# Altium schematic symbol library ST Microcontroller 32-Bit ARM.SchLib: 73 symbols (part 5 of 5)
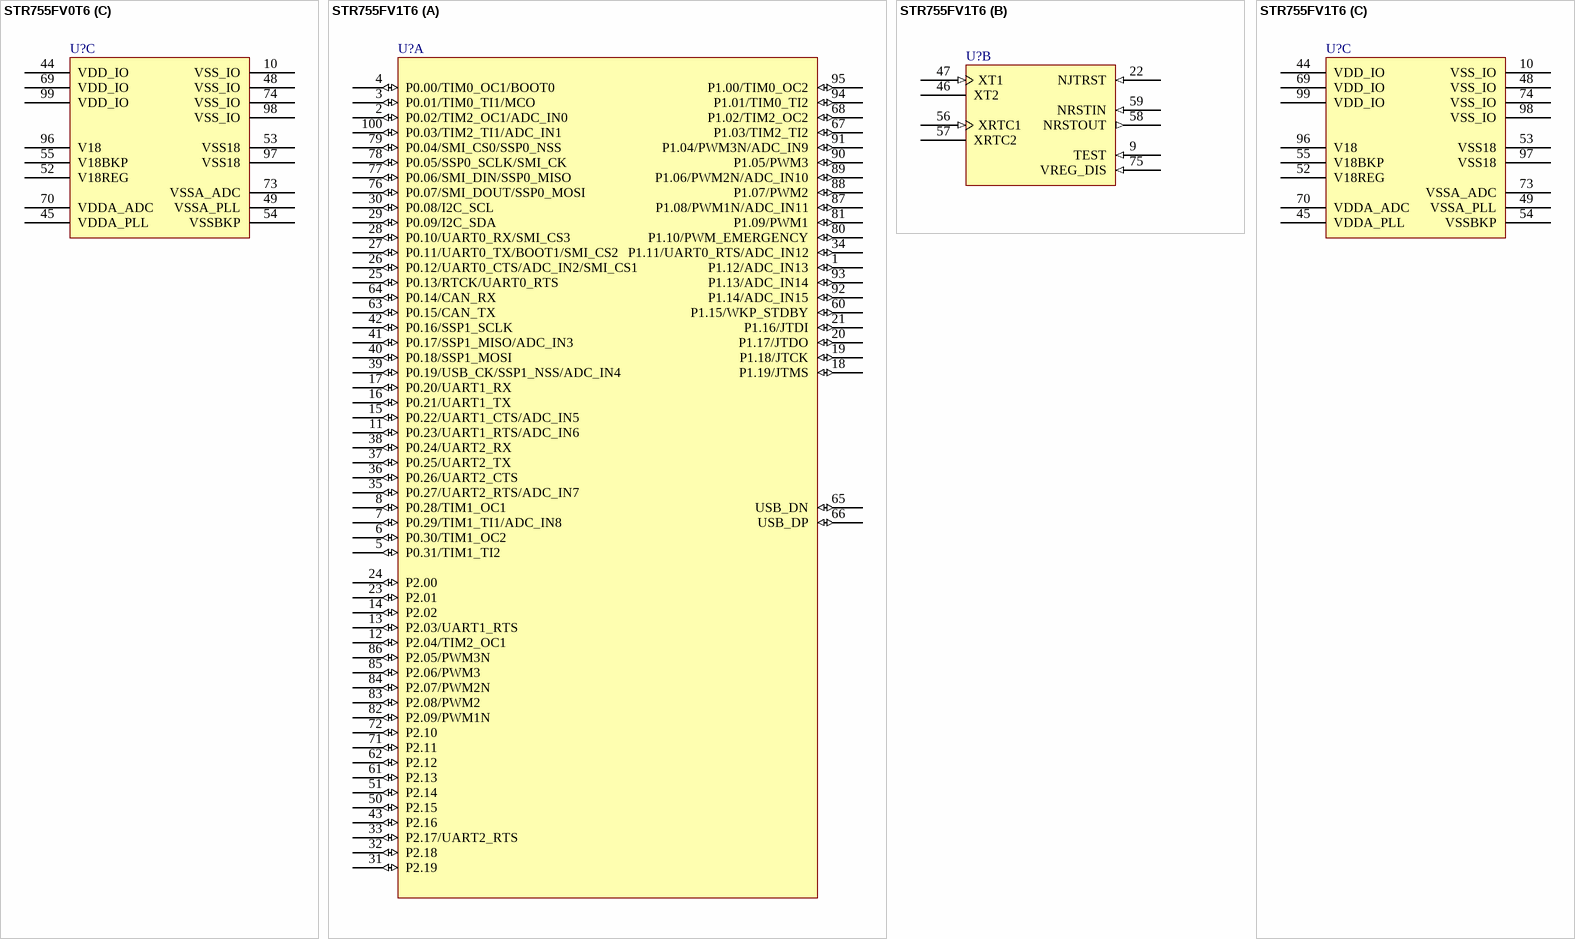
[diagram p35: symbols STR755FV0T6 to STR755FV1T6]

## STR755FV0T6
designator U?
ARM7TDMI-S 32-Bit RISC CPU, 64KB Flash Memory, 100-pin LQFP; Published: 12-Dec-2006; DatasheetVersion: rev1, Sep-2006; PackageVersion: Dec-2002; PackageReference: TQFP100; Publisher: Altium Limited; PackageDescription: 100-Pin Thin Quad Flat Pack 0.5 mm Pitch; ComponentLink1Description: Manufacturer Link; ComponentLink1URL: http://www.st.com/; ComponentLink2Description: Datasheet; ComponentLink2URL: http://www.st.com/stonline/products/literature/ds/11260.pdf
footprint TQFP100_N (Thin QFP, 100-Leads, Body 14x14mm, Pitch 0.5mm, IPC Medium Density)
footprint TQFP100_L (Thin QFP, 100-Leads, Body 14x14mm, Pitch 0.5mm, IPC High Density)
footprint TQFP100_M (Thin QFP, 100-Leads, Body 14x14mm, Pitch 0.5mm, IPC Low Density)
part A pins: 1 P1.12/ADC_IN13 (io), 2 P0.02/TIM2_OC1/ADC_IN0 (io), 3 P0.01/TIM0_TI1/MCO (io), 4 P0.00/TIM0_OC1/BOOT0 (io), 5 P0.31/TIM1_TI2 (io), 6 P0.30/TIM1_OC2 (io), 7 P0.29/TIM1_TI1/ADC_IN8 (io), 8 P0.28/TIM1_OC1 (io), 11 P0.23/UART1_RTS/ADC_IN6 (io), 12 P2.04/TIM2_OC1 (io), 13 P2.03/UART1_RTS (io), 14 P2.02 (io), 15 P0.22/UART1_CTS/ADC_IN5 (io), 16 P0.21/UART1_TX (io), 17 P0.20/UART1_RX (io), 18 P1.19/JTMS (io), 19 P1.18/JTCK (io), 20 P1.17/JTDO (io), 21 P1.16/JTDI (io), 23 P2.01 (io), 24 P2.00 (io), 25 P0.13/RTCK/UART0_RTS (io), 26 P0.12/UART0_CTS/ADC_IN2/SMI_CS1 (io), 27 P0.11/UART0_TX/BOOT1/SMI_CS2 (io), 28 P0.10/UART0_RX/SMI_CS3 (io), 29 P0.09/I2C_SDA (io), 30 P0.08/I2C_SCL (io), 31 P2.19 (io), 32 P2.18 (io), 33 P2.17/UART2_RTS (io), 34 P1.11/UART0_RTS/ADC_IN12 (io), 35 P0.27/UART2_RTS/ADC_IN7 (io), 36 P0.26/UART2_CTS (io), 37 P0.25/UART2_TX (io), 38 P0.24/UART2_RX (io), 39 P0.19/USB_CK/SSP1_NSS/ADC_IN4 (io), 40 P0.18/SSP1_MOSI (io), 41 P0.17/SSP1_MISO/ADC_IN3 (io), 42 P0.16/SSP1_SCLK (io), 43 P2.16 (io), 50 P2.15 (io), 51 P2.14 (io), 60 P1.15/WKP_STDBY (io), 61 P2.13 (io), 62 P2.12 (io), 63 P0.15/CAN_TX (io), 64 P0.14/CAN_RX (io), 65 USB_DN (io), 66 USB_DP (io), 67 P1.03/TIM2_TI2 (io), 68 P1.02/TIM2_OC2 (io), 71 P2.11 (io), 72 P2.10 (io), 76 P0.07/SMI_DOUT/SSP0_MOSI (io), 77 P0.06/SMI_DIN/SSP0_MISO (io), 78 P0.05/SSP0_SCLK/SMI_CK (io), 79 P0.04/SMI_CS0/SSP0_NSS (io), 80 P1.10/PWM_EMERGENCY (io), 81 P1.09/PWM1 (io), 82 P2.09/PWM1N (io), 83 P2.08/PWM2 (io), 84 P2.07/PWM2N (io), 85 P2.06/PWM3 (io), 86 P2.05/PWM3N (io), 87 P1.08/PWM1N/ADC_IN11 (io), 88 P1.07/PWM2 (io), 89 P1.06/PWM2N/ADC_IN10 (io), 90 P1.05/PWM3 (io), 91 P1.04/PWM3N/ADC_IN9 (io), 92 P1.14/ADC_IN15 (io), 93 P1.13/ADC_IN14 (io), 94 P1.01/TIM0_TI2 (io), 95 P1.00/TIM0_OC2 (io), 100 P0.03/TIM2_TI1/ADC_IN1 (io)
part B pins: 9 TEST (in), 22 NJTRST (in), 46 XT2, 47 XT1 (in), 56 XRTC1 (in), 57 XRTC2, 58 NRSTOUT (out), 59 NRSTIN (in), 75 VREG_DIS (in)
part C pins: 10 VSS_IO (power), 44 VDD_IO (power), 45 VDDA_PLL (power), 48 VSS_IO (power), 49 VSSA_PLL (power), 52 V18REG (power), 53 VSS18 (power), 54 VSSBKP (power), 55 V18BKP (power), 69 VDD_IO (power), 70 VDDA_ADC (power), 73 VSSA_ADC (power), 74 VSS_IO (power), 96 V18 (power), 97 VSS18 (power), 98 VSS_IO (power), 99 VDD_IO (power)

## STR755FV1T6
designator U?
ARM7TDMI-S 32-Bit RISC CPU, 128KB Flash Memory, 100-pin LQFP; Published: 12-Dec-2006; DatasheetVersion: rev1, Sep-2006; PackageVersion: Dec-2002; PackageReference: TQFP100; Publisher: Altium Limited; PackageDescription: 100-Pin Thin Quad Flat Pack 0.5 mm Pitch; ComponentLink1Description: Manufacturer Link; ComponentLink1URL: http://www.st.com/; ComponentLink2Description: Datasheet; ComponentLink2URL: http://www.st.com/stonline/products/literature/ds/11260.pdf
footprint TQFP100_N (Thin QFP, 100-Leads, Body 14x14mm, Pitch 0.5mm, IPC Medium Density)
footprint TQFP100_L (Thin QFP, 100-Leads, Body 14x14mm, Pitch 0.5mm, IPC High Density)
footprint TQFP100_M (Thin QFP, 100-Leads, Body 14x14mm, Pitch 0.5mm, IPC Low Density)
part A pins: 1 P1.12/ADC_IN13 (io), 2 P0.02/TIM2_OC1/ADC_IN0 (io), 3 P0.01/TIM0_TI1/MCO (io), 4 P0.00/TIM0_OC1/BOOT0 (io), 5 P0.31/TIM1_TI2 (io), 6 P0.30/TIM1_OC2 (io), 7 P0.29/TIM1_TI1/ADC_IN8 (io), 8 P0.28/TIM1_OC1 (io), 11 P0.23/UART1_RTS/ADC_IN6 (io), 12 P2.04/TIM2_OC1 (io), 13 P2.03/UART1_RTS (io), 14 P2.02 (io), 15 P0.22/UART1_CTS/ADC_IN5 (io), 16 P0.21/UART1_TX (io), 17 P0.20/UART1_RX (io), 18 P1.19/JTMS (io), 19 P1.18/JTCK (io), 20 P1.17/JTDO (io), 21 P1.16/JTDI (io), 23 P2.01 (io), 24 P2.00 (io), 25 P0.13/RTCK/UART0_RTS (io), 26 P0.12/UART0_CTS/ADC_IN2/SMI_CS1 (io), 27 P0.11/UART0_TX/BOOT1/SMI_CS2 (io), 28 P0.10/UART0_RX/SMI_CS3 (io), 29 P0.09/I2C_SDA (io), 30 P0.08/I2C_SCL (io), 31 P2.19 (io), 32 P2.18 (io), 33 P2.17/UART2_RTS (io), 34 P1.11/UART0_RTS/ADC_IN12 (io), 35 P0.27/UART2_RTS/ADC_IN7 (io), 36 P0.26/UART2_CTS (io), 37 P0.25/UART2_TX (io), 38 P0.24/UART2_RX (io), 39 P0.19/USB_CK/SSP1_NSS/ADC_IN4 (io), 40 P0.18/SSP1_MOSI (io), 41 P0.17/SSP1_MISO/ADC_IN3 (io), 42 P0.16/SSP1_SCLK (io), 43 P2.16 (io), 50 P2.15 (io), 51 P2.14 (io), 60 P1.15/WKP_STDBY (io), 61 P2.13 (io), 62 P2.12 (io), 63 P0.15/CAN_TX (io), 64 P0.14/CAN_RX (io), 65 USB_DN (io), 66 USB_DP (io), 67 P1.03/TIM2_TI2 (io), 68 P1.02/TIM2_OC2 (io), 71 P2.11 (io), 72 P2.10 (io), 76 P0.07/SMI_DOUT/SSP0_MOSI (io), 77 P0.06/SMI_DIN/SSP0_MISO (io), 78 P0.05/SSP0_SCLK/SMI_CK (io), 79 P0.04/SMI_CS0/SSP0_NSS (io), 80 P1.10/PWM_EMERGENCY (io), 81 P1.09/PWM1 (io), 82 P2.09/PWM1N (io), 83 P2.08/PWM2 (io), 84 P2.07/PWM2N (io), 85 P2.06/PWM3 (io), 86 P2.05/PWM3N (io), 87 P1.08/PWM1N/ADC_IN11 (io), 88 P1.07/PWM2 (io), 89 P1.06/PWM2N/ADC_IN10 (io), 90 P1.05/PWM3 (io), 91 P1.04/PWM3N/ADC_IN9 (io), 92 P1.14/ADC_IN15 (io), 93 P1.13/ADC_IN14 (io), 94 P1.01/TIM0_TI2 (io), 95 P1.00/TIM0_OC2 (io), 100 P0.03/TIM2_TI1/ADC_IN1 (io)
part B pins: 9 TEST (in), 22 NJTRST (in), 46 XT2, 47 XT1 (in), 56 XRTC1 (in), 57 XRTC2, 58 NRSTOUT (out), 59 NRSTIN (in), 75 VREG_DIS (in)
part C pins: 10 VSS_IO (power), 44 VDD_IO (power), 45 VDDA_PLL (power), 48 VSS_IO (power), 49 VSSA_PLL (power), 52 V18REG (power), 53 VSS18 (power), 54 VSSBKP (power), 55 V18BKP (power), 69 VDD_IO (power), 70 VDDA_ADC (power), 73 VSSA_ADC (power), 74 VSS_IO (power), 96 V18 (power), 97 VSS18 (power), 98 VSS_IO (power), 99 VDD_IO (power)

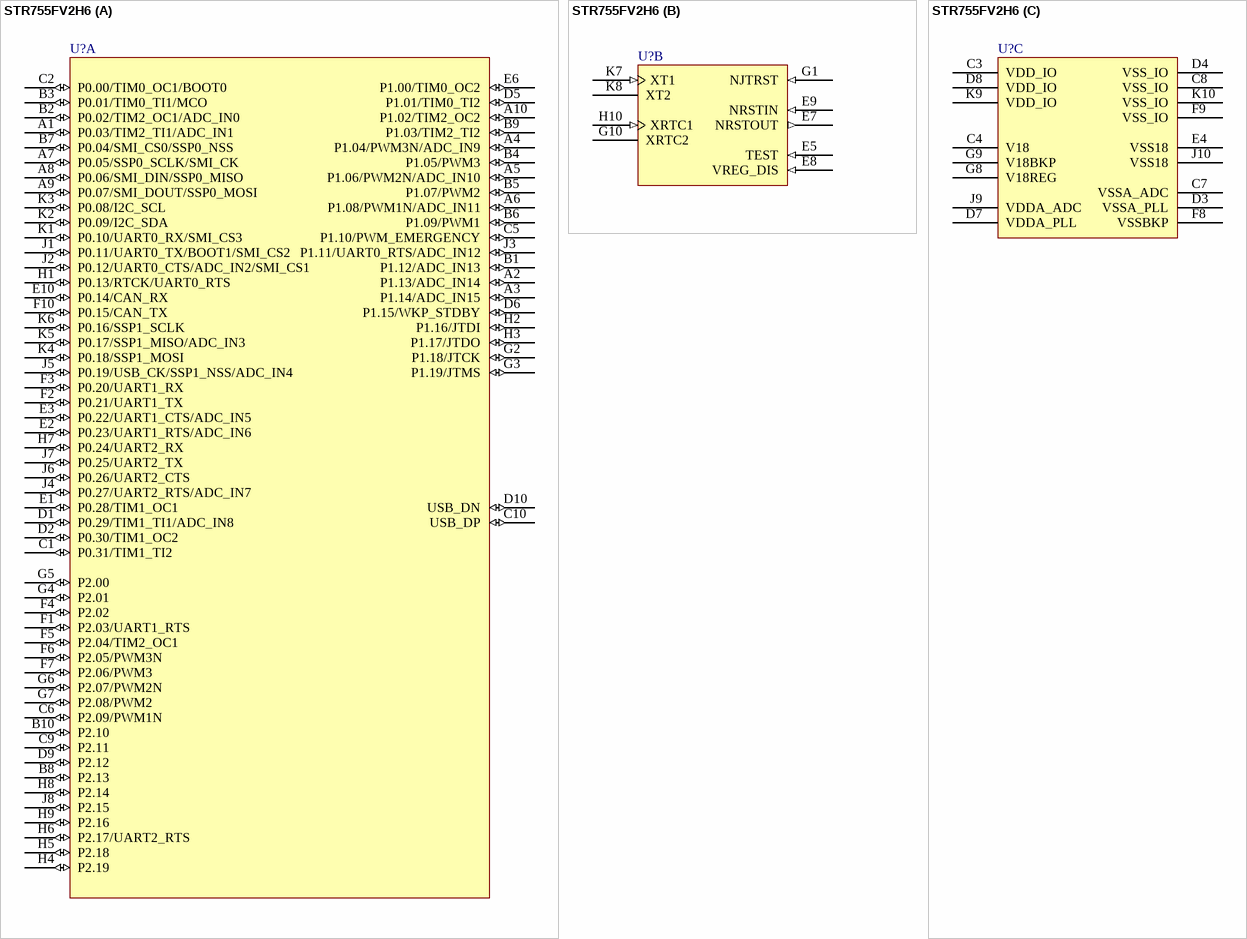
[diagram p30: symbol STR755FV2H6]

## STR755FV2H6
designator U?
ARM7TDMI-S 32-Bit RISC CPU, 256KB Flash Memory, 100-ball LFBGA; Note: For other memory sizes, contact sales office.; Published: 12-Dec-2006; DatasheetVersion: rev1, Sep-2006; PackageVersion: Sep-2006; PackageReference: LFBGA100; Publisher: Altium Limited; PackageDescription: 100-Ball Low Profile Fine Pitch Ball Grid Array; ComponentLink1Description: Manufacturer Link; ComponentLink1URL: http://www.st.com/; ComponentLink2Description: Datasheet; ComponentLink2URL: http://www.st.com/stonline/products/literature/ds/11260.pdf
footprint LFBGA100 (BGA, 100-Leads, Body 10x10mm, Pitch 0.8mm)
part A pins: A1 P0.03/TIM2_TI1/ADC_IN1 (io), A2 P1.13/ADC_IN14 (io), A3 P1.14/ADC_IN15 (io), A4 P1.04/PWM3N/ADC_IN9 (io), A5 P1.06/PWM2N/ADC_IN10 (io), A6 P1.08/PWM1N/ADC_IN11 (io), A7 P0.05/SSP0_SCLK/SMI_CK (io), A8 P0.06/SMI_DIN/SSP0_MISO (io), A9 P0.07/SMI_DOUT/SSP0_MOSI (io), A10 P1.02/TIM2_OC2 (io), B1 P1.12/ADC_IN13 (io), B2 P0.02/TIM2_OC1/ADC_IN0 (io), B3 P0.01/TIM0_TI1/MCO (io), B4 P1.05/PWM3 (io), B5 P1.07/PWM2 (io), B6 P1.09/PWM1 (io), B7 P0.04/SMI_CS0/SSP0_NSS (io), B8 P2.13 (io), B9 P1.03/TIM2_TI2 (io), B10 P2.10 (io), C1 P0.31/TIM1_TI2 (io), C2 P0.00/TIM0_OC1/BOOT0 (io), C5 P1.10/PWM_EMERGENCY (io), C6 P2.09/PWM1N (io), C9 P2.11 (io), C10 USB_DP (io), D1 P0.29/TIM1_TI1/ADC_IN8 (io), D2 P0.30/TIM1_OC2 (io), D5 P1.01/TIM0_TI2 (io), D6 P1.15/WKP_STDBY (io), D9 P2.12 (io), D10 USB_DN (io), E1 P0.28/TIM1_OC1 (io), E2 P0.23/UART1_RTS/ADC_IN6 (io), E3 P0.22/UART1_CTS/ADC_IN5 (io), E6 P1.00/TIM0_OC2 (io), E10 P0.14/CAN_RX (io), F1 P2.03/UART1_RTS (io), F2 P0.21/UART1_TX (io), F3 P0.20/UART1_RX (io), F4 P2.02 (io), F5 P2.04/TIM2_OC1 (io), F6 P2.05/PWM3N (io), F7 P2.06/PWM3 (io), F10 P0.15/CAN_TX (io), G2 P1.18/JTCK (io), G3 P1.19/JTMS (io), G4 P2.01 (io), G5 P2.00 (io), G6 P2.07/PWM2N (io), G7 P2.08/PWM2 (io), H1 P0.13/RTCK/UART0_RTS (io), H2 P1.16/JTDI (io), H3 P1.17/JTDO (io), H4 P2.19 (io), H5 P2.18 (io), H6 P2.17/UART2_RTS (io), H7 P0.24/UART2_RX (io), H8 P2.14 (io), H9 P2.16 (io), J1 P0.11/UART0_TX/BOOT1/SMI_CS2 (io), J2 P0.12/UART0_CTS/ADC_IN2/SMI_CS1 (io), J3 P1.11/UART0_RTS/ADC_IN12 (io), J4 P0.27/UART2_RTS/ADC_IN7 (io), J5 P0.19/USB_CK/SSP1_NSS/ADC_IN4 (io), J6 P0.26/UART2_CTS (io), J7 P0.25/UART2_TX (io), J8 P2.15 (io), K1 P0.10/UART0_RX/SMI_CS3 (io), K2 P0.09/I2C_SDA (io), K3 P0.08/I2C_SCL (io), K4 P0.18/SSP1_MOSI (io), K5 P0.17/SSP1_MISO/ADC_IN3 (io), K6 P0.16/SSP1_SCLK (io)
part B pins: E5 TEST (in), E7 NRSTOUT (out), E8 VREG_DIS (in), E9 NRSTIN (in), G1 NJTRST (in), G10 XRTC2, H10 XRTC1 (in), K7 XT1 (in), K8 XT2
part C pins: C3 VDD_IO (power), C4 V18 (power), C7 VSSA_ADC (power), C8 VSS_IO (power), D3 VSSA_PLL (power), D4 VSS_IO (power), D7 VDDA_PLL (power), D8 VDD_IO (power), E4 VSS18 (power), F8 VSSBKP (power), F9 VSS_IO (power), G8 V18REG (power), G9 V18BKP (power), J9 VDDA_ADC (power), J10 VSS18 (power), K9 VDD_IO (power), K10 VSS_IO (power)

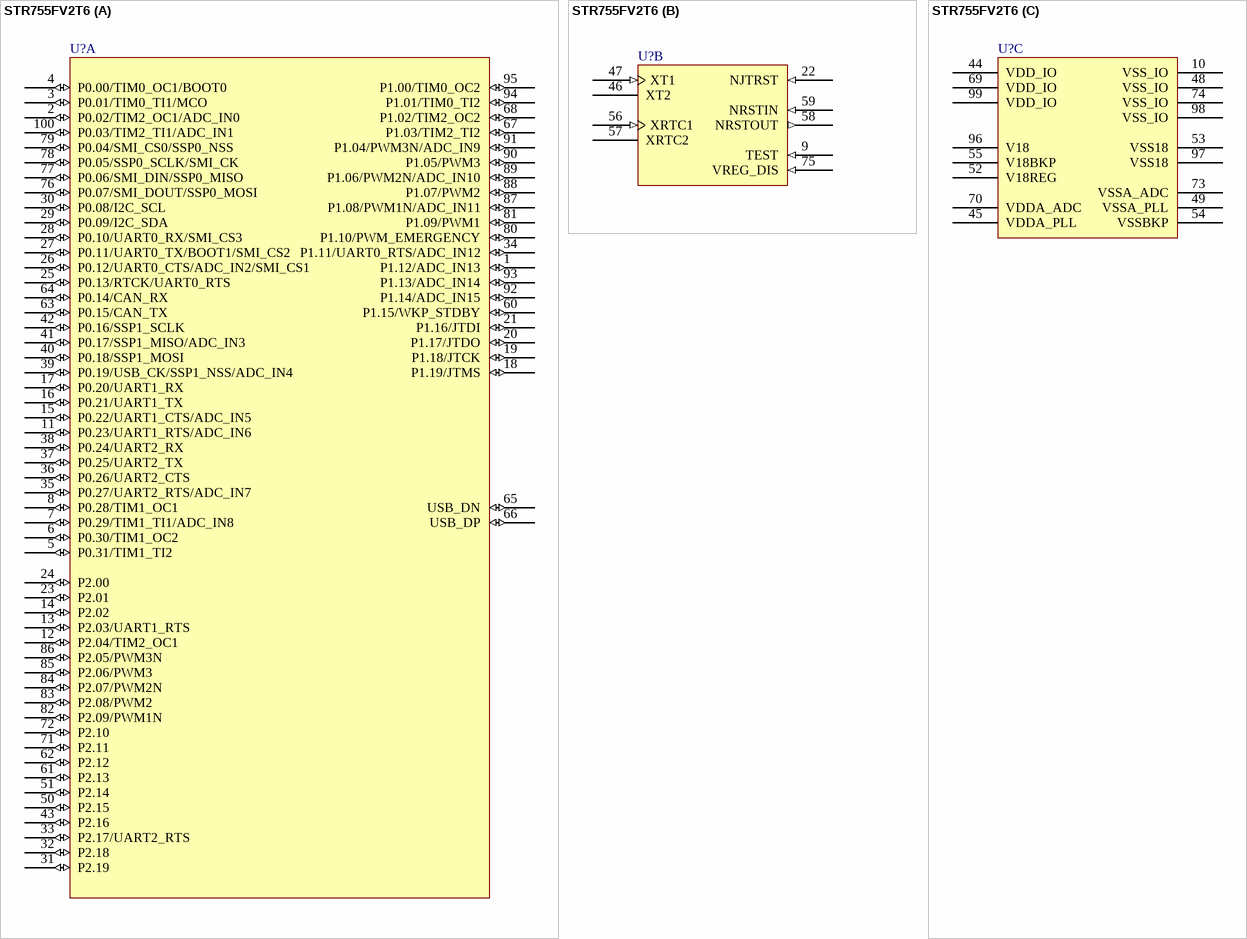
[diagram p31: symbol STR755FV2T6]

## STR755FV2T6
designator U?
ARM7TDMI-S 32-Bit RISC CPU, 256KB Flash Memory, 100-pin LQFP; Published: 12-Dec-2006; DatasheetVersion: rev1, Sep-2006; PackageVersion: Dec-2002; PackageReference: TQFP100; Publisher: Altium Limited; PackageDescription: 100-Pin Thin Quad Flat Pack 0.5 mm Pitch; ComponentLink1Description: Manufacturer Link; ComponentLink1URL: http://www.st.com/; ComponentLink2Description: Datasheet; ComponentLink2URL: http://www.st.com/stonline/products/literature/ds/11260.pdf
footprint TQFP100_N (Thin QFP, 100-Leads, Body 14x14mm, Pitch 0.5mm, IPC Medium Density)
footprint TQFP100_L (Thin QFP, 100-Leads, Body 14x14mm, Pitch 0.5mm, IPC High Density)
footprint TQFP100_M (Thin QFP, 100-Leads, Body 14x14mm, Pitch 0.5mm, IPC Low Density)
part A pins: 1 P1.12/ADC_IN13 (io), 2 P0.02/TIM2_OC1/ADC_IN0 (io), 3 P0.01/TIM0_TI1/MCO (io), 4 P0.00/TIM0_OC1/BOOT0 (io), 5 P0.31/TIM1_TI2 (io), 6 P0.30/TIM1_OC2 (io), 7 P0.29/TIM1_TI1/ADC_IN8 (io), 8 P0.28/TIM1_OC1 (io), 11 P0.23/UART1_RTS/ADC_IN6 (io), 12 P2.04/TIM2_OC1 (io), 13 P2.03/UART1_RTS (io), 14 P2.02 (io), 15 P0.22/UART1_CTS/ADC_IN5 (io), 16 P0.21/UART1_TX (io), 17 P0.20/UART1_RX (io), 18 P1.19/JTMS (io), 19 P1.18/JTCK (io), 20 P1.17/JTDO (io), 21 P1.16/JTDI (io), 23 P2.01 (io), 24 P2.00 (io), 25 P0.13/RTCK/UART0_RTS (io), 26 P0.12/UART0_CTS/ADC_IN2/SMI_CS1 (io), 27 P0.11/UART0_TX/BOOT1/SMI_CS2 (io), 28 P0.10/UART0_RX/SMI_CS3 (io), 29 P0.09/I2C_SDA (io), 30 P0.08/I2C_SCL (io), 31 P2.19 (io), 32 P2.18 (io), 33 P2.17/UART2_RTS (io), 34 P1.11/UART0_RTS/ADC_IN12 (io), 35 P0.27/UART2_RTS/ADC_IN7 (io), 36 P0.26/UART2_CTS (io), 37 P0.25/UART2_TX (io), 38 P0.24/UART2_RX (io), 39 P0.19/USB_CK/SSP1_NSS/ADC_IN4 (io), 40 P0.18/SSP1_MOSI (io), 41 P0.17/SSP1_MISO/ADC_IN3 (io), 42 P0.16/SSP1_SCLK (io), 43 P2.16 (io), 50 P2.15 (io), 51 P2.14 (io), 60 P1.15/WKP_STDBY (io), 61 P2.13 (io), 62 P2.12 (io), 63 P0.15/CAN_TX (io), 64 P0.14/CAN_RX (io), 65 USB_DN (io), 66 USB_DP (io), 67 P1.03/TIM2_TI2 (io), 68 P1.02/TIM2_OC2 (io), 71 P2.11 (io), 72 P2.10 (io), 76 P0.07/SMI_DOUT/SSP0_MOSI (io), 77 P0.06/SMI_DIN/SSP0_MISO (io), 78 P0.05/SSP0_SCLK/SMI_CK (io), 79 P0.04/SMI_CS0/SSP0_NSS (io), 80 P1.10/PWM_EMERGENCY (io), 81 P1.09/PWM1 (io), 82 P2.09/PWM1N (io), 83 P2.08/PWM2 (io), 84 P2.07/PWM2N (io), 85 P2.06/PWM3 (io), 86 P2.05/PWM3N (io), 87 P1.08/PWM1N/ADC_IN11 (io), 88 P1.07/PWM2 (io), 89 P1.06/PWM2N/ADC_IN10 (io), 90 P1.05/PWM3 (io), 91 P1.04/PWM3N/ADC_IN9 (io), 92 P1.14/ADC_IN15 (io), 93 P1.13/ADC_IN14 (io), 94 P1.01/TIM0_TI2 (io), 95 P1.00/TIM0_OC2 (io), 100 P0.03/TIM2_TI1/ADC_IN1 (io)
part B pins: 9 TEST (in), 22 NJTRST (in), 46 XT2, 47 XT1 (in), 56 XRTC1 (in), 57 XRTC2, 58 NRSTOUT (out), 59 NRSTIN (in), 75 VREG_DIS (in)
part C pins: 10 VSS_IO (power), 44 VDD_IO (power), 45 VDDA_PLL (power), 48 VSS_IO (power), 49 VSSA_PLL (power), 52 V18REG (power), 53 VSS18 (power), 54 VSSBKP (power), 55 V18BKP (power), 69 VDD_IO (power), 70 VDDA_ADC (power), 73 VSSA_ADC (power), 74 VSS_IO (power), 96 V18 (power), 97 VSS18 (power), 98 VSS_IO (power), 99 VDD_IO (power)